# Altium footprint library TL750M.PcbLib: 1 footprints
Each footprint in its own frame and in the unit in brackets; x right, y up, seen from the top. Pads: shape width x height; smd on the part's side, far side on the other; paste and mask are expansions set on the pad; w line width, h text height; cw(c..) or ccw(c..) is an arc to the next point about the centre after c.
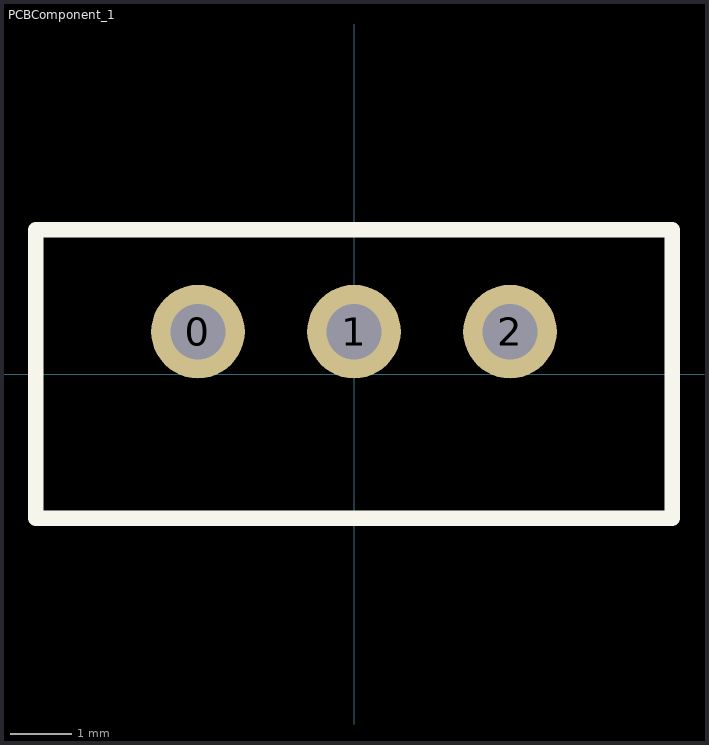
[diagram p0: the footprint, top view; thin cyan lines are the x and y axes]

## PCBComponent_1 [mil]
pads (3):
  round 60 hole 35.43: 0(-100,27.17) 1(0,27.17) 2(100,27.17)
Top Overlay:
  lines w10: -203.94,-92.52 -203.94,92.52 203.94,92.52 203.94,-92.52 -203.94,-92.52